# EAGLE library part NST-28037B-002 (library X893)
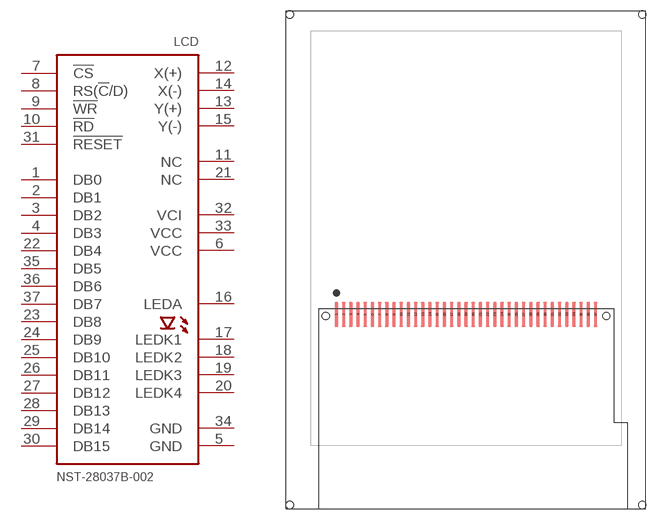
[diagram p143: symbol with the pads of NST28037B-002; footprint NST28037B-002]

Designator prefix LCD

## NST-28037B-002  [NST28037B-002]
1  DB0
2  DB1
3  DB2
4  DB3
5  GND  pwr
6  VCC  pwr
7  !CS  in
8  RS(!C!/D)  in
9  !WR  in
10  !RD  in
11  NC  nc
12  X(+)  pas
13  Y(+)  pas
14  X(-)  pas
15  Y(-)  pas
16  LEDA  pas
17  LEDK1  pas
18  LEDK2  pas
19  LEDK3  pas
20  LEDK4  pas
21  NC  nc
22  DB4
23  DB8
24  DB9
25  DB10
26  DB11
27  DB12
28  DB13
29  DB14
30  DB15
31  !RESET  in
32  VCI  pwr
33  VCC  pwr
34  GND  pwr
35  DB5
36  DB6
37  DB7

## Footprint NST28037B-002 (pad centres in mm)
smd 0.5 x 3.5: 1 -18,-3; 2 -17,-3; 3 -16,-3; 4 -15,-3; 5 -14,-3; 6 -13,-3; 7 -12,-3; 8 -11,-3; 9 -10,-3; 10 -9,-3; 11 -8,-3; 12 -7,-3; 13 -6,-3; 14 -5,-3; 15 -4,-3; 16 -3,-3; 17 -2,-3; 18 -1,-3; 19 0,-3; 20 1,-3; 21 2,-3; 22 3,-3; 23 4,-3; 24 5,-3; 25 6,-3; 26 7,-3; 27 8,-3; 28 9,-3; 29 10,-3; 30 11,-3; 31 12,-3; 32 13,-3; 33 14,-3; 34 15,-3; 35 16,-3; 36 17,-3; 37 18,-3
hole 1 at 19.5,-3.2
hole 1 at -19.5,-3.2